# Altium schematic symbol library LEDSW.SchLib: 6 symbols
Pins are listed as number, name and electrical type; pins without a type are passive.

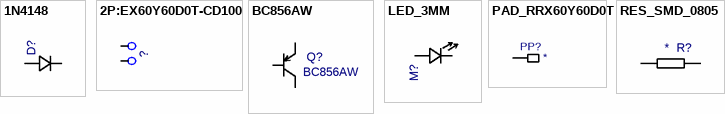
[diagram p0: symbols 1N4148 to RES_SMD_0805]

## 1N4148
designator D?  (value not drawn)
Value: *
footprint SOD80
pins: A, K

## 2P:EX60Y60D0T-CD100
designator ?  (value not drawn)
Value: *
footprint 2P:EX60Y60D0T-CD100
pins: 1, 2

## BC856AW
designator Q?
Value: *
footprint SOT23
pins: 1 B, 2 E, 3 C

## LED_3MM
designator M?  (value not drawn)
Value: *
footprint LED_3MM_DIP
pins: A, K

## PAD_RRX60Y60D0T
designator PP?  (value not drawn)
Value: *
footprint PAD_RRX60Y60D0T
pins: 1

## RES_SMD_0805
designator R?  (value not drawn)
Value: *
footprint R0805
pins: 1, 2